# Altium footprint library Misc.PcbLib: 3 footprints
Each footprint in its own frame and in the unit in brackets; x right, y up, seen from the top. Pads: shape width x height; smd on the part's side, far side on the other; paste and mask are expansions set on the pad; w line width, h text height; cw(c..) or ccw(c..) is an arc to the next point about the centre after c.
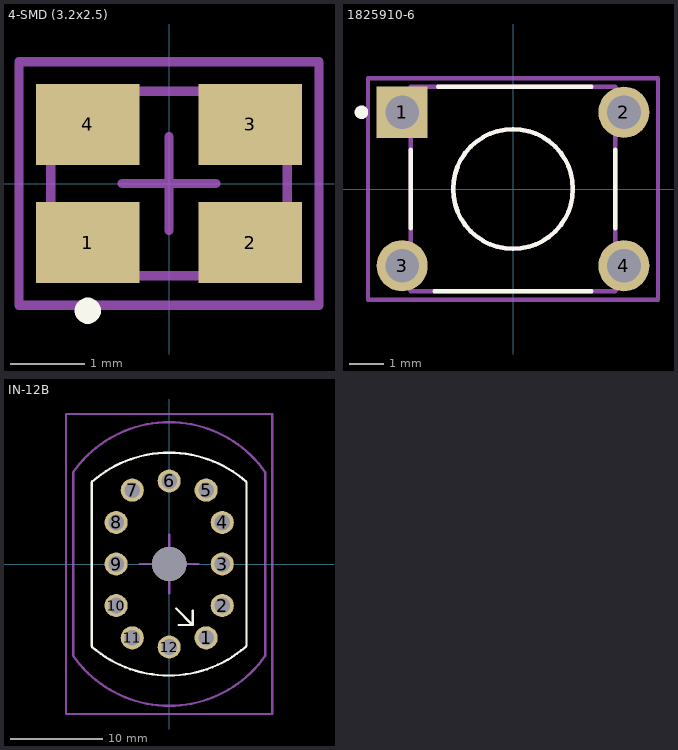
[diagram p0: the footprints below, top view; thin cyan lines are the x and y axes]

## 4-SMD (3.2x2.5) [mm] "Typical Crystal Oscillator Footprint"
pads (4):
  rect 1.4x1.1 smd: 1(-1.1,-0.8) 2(1.1,-0.8) 3(1.1,0.8) 4(-1.1,0.8)
Top Overlay:
  lines w0.203: -1.1,-1.799 ccw(c-1.1,-1.723) -1.1,-1.647 ccw(c-1.1,-1.723) -1.1,-1.799
Top Component Center:
  lines w0.127: -0.635,0 0,0 ; 0,-0.635 0,0 ; 0,0.635 0,0 ; 0.635,0 0,0
Top Component Outline:
  lines w0.127: -1.6,-1.25 -1.6,1.25 1.6,1.25 1.6,-1.25 -1.6,-1.25
Top Courtyard:
  lines w0.127: -2.032,-1.651 2.032,-1.651 2.032,1.651 -2.032,1.651 -2.032,-1.651
3D body "RH100-12.000-12-1010-X-TR-NS2.stp": height 0.9, standoff 0, extent -1.69,-1.25 1.69,1.25

## 1825910-6 [mm]
pads (4):
  rect 1.498x1.498 / inner round 1.498 / far side rect 1.498x1.498 hole 0.99 mask+0.102: 1(-3.25,2.25)
  round 1.498 hole 0.99 mask+0.102: 2(3.25,2.25) 3(-3.25,-2.25) 4(3.25,-2.25)
Top Overlay:
  circle w0.2: c-4.445,2.25 r0.1
  circle w0.127: c0,0 r1.755
  lines w0.127: -2.995,-1.15 -2.995,1.15 ; -2.3,-2.995 2.3,-2.995 ; -2.2,2.995 2.3,2.995 ; 3,-1.15 3,1.15
Top Component Outline:
  circle w0.127: c0,0 r1.755
  lines w0.127: -2.995,-2.995 -2.995,2.995 2.995,2.995 2.995,-2.995 -2.995,-2.995
Top Courtyard:
  lines w0.127: -4.25,-3.25 4.25,-3.25 4.25,3.25 -4.25,3.25 -4.25,-3.25
3D body "step_temp.STEP": height 5.08, standoff -3.43, extent -3.9,-2.995 3.9,2.995

## IN-12B [mm] "Russian Nixie Tube, hole sizes sized for generic amazon pins, not for direct tube soldering."
pads (12):
  round 2.5 hole 1.7: 1(4,-8.001) 2(5.751,-4.501) 3(5.751,0) 4(5.751,4.501) 5(4,8.001) 6(0,8.999) 7(-4,8.001) 8(-5.751,4.501) 9(-5.751,0) 10(-5.751,-4.501) 11(-4,-8.001) 12(0,-8.999)
via 0,0 diameter 3.7 hole 3.7
Top Overlay:
  lines w0.254: -8.382,-8.89 -8.382,8.89 ; -8.373,-8.975 ccw(c-0.041,0.61) 8.291,-8.975 ; -8.332,8.95 cw(c0,-0.635) 8.332,8.95 ; 0.762,-4.826 2.54,-6.604 ; 1.016,-6.604 2.54,-6.604 ; 2.54,-5.08 2.54,-6.604 ; 8.382,-8.89 8.382,8.89
Top Component Center:
  lines w0.254: -3.175,0 0,0 ; 0,-3.175 0,0 ; 0,3.175 0,0 ; 3.175,0 0,0 ; -11.176,-16.256 11.176,-16.256 11.176,16.256 -11.176,16.256 -11.176,-16.256
Top Component Outline:
  lines w0.254: -10.403,-9.951 ccw(c0,-2.667) 10.403,-9.951 10.403,9.951 ccw(c0,2.667) -10.403,9.951 -10.403,-9.951
3D body "IN-12A.step": height 28.54, standoff -3.46, extent -10.5,-15.485 10.5,15.485